# Altium footprint library 2HDR_2mm.PcbLib: 1 footprints
Each footprint in its own frame and in the unit in brackets; x right, y up, seen from the top. Pads: shape width x height; smd on the part's side, far side on the other; paste and mask are expansions set on the pad; w line width, h text height; cw(c..) or ccw(c..) is an arc to the next point about the centre after c.
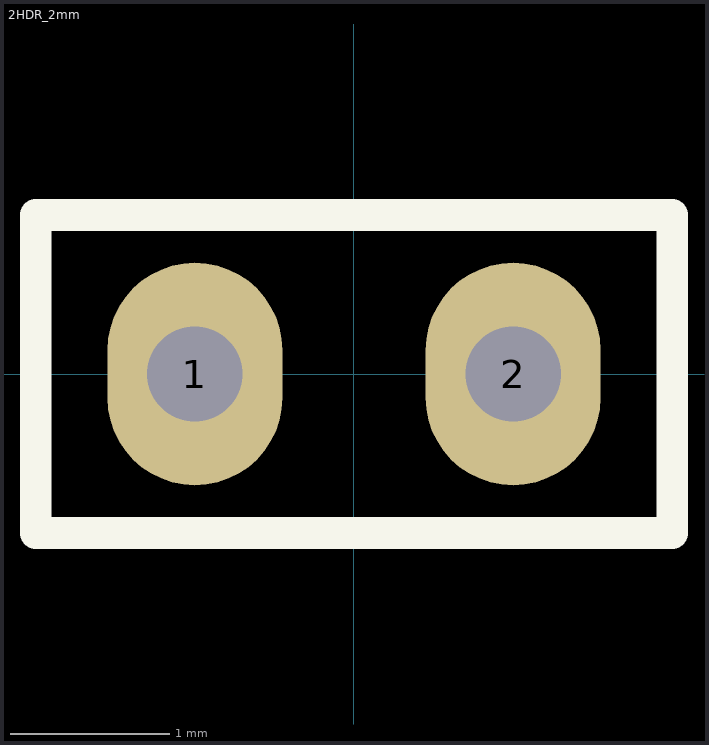
[diagram p0: the footprint, top view; thin cyan lines are the x and y axes]

## 2HDR_2mm [mm]
height 9
pads (2):
  oval 1.1x1.4 hole 0.6: 1(-1,0) 2(1,0)
Top Overlay:
  lines w0.2: -2,-1 -2,1 2,1 2,-1 -2,-1